# EAGLE library part TB6612FNG,C,8,EL (library IC)
IC MOTOR DRIVER 2.7V-5.5V 24SSOP Manufacturer's datasheet <https://toshiba.semicon-storage.com/info/docget.jsp?did=10660&prodName=TB6612FNG>
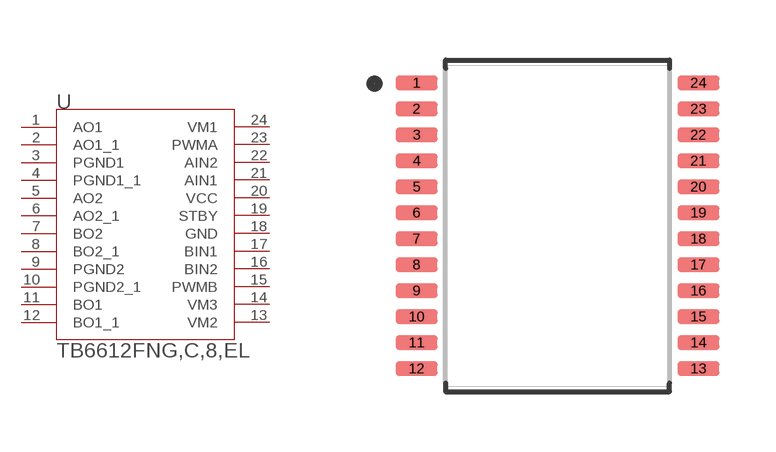
[diagram p40: symbol with the pads of SSOP-24; footprint SSOP-24]

Designator prefix U

## TB6612FNG,C,8,EL (CREATED_BY: PCBLayout.com; DIGI-KEY_PART: TB6612FNGC8ELCT-ND; MANUFACTURER: Toshiba Semiconductor and Storage; MPN: TB6612FNG,C,8,EL; PACKAGE: SSOP-24)  [SSOP-24]
1  AO1  out
2  AO1_1  out
3  PGND1  pwr
4  PGND1_1  pwr
5  AO2  out
6  AO2_1
7  BO2  out
8  BO2_1  out
9  PGND2  pwr
10  PGND2_1  pwr
11  BO1  out
12  BO1_1  out
13  VM2  pas
14  VM3
15  PWMB  in
16  BIN2  in
17  BIN1  in
18  GND  pwr
19  STBY  in
20  VCC  pwr
21  AIN1  in
22  AIN2  in
23  PWMA  in
24  VM1  pas

## Footprint SSOP-24 (pad centres in mm)
Small Outline Pkg (SOP), 0.65 mm pitch; 24 pin, 8.05 mm L X 5.60 mm W X 1.20 mm H body PCB Libraries Packages
smd 1.06 x 0.37: 1 -3.525,3.575; 2 -3.525,2.925; 3 -3.525,2.275; 4 -3.525,1.625; 5 -3.525,0.975; 6 -3.525,0.325; 7 -3.525,-0.325; 8 -3.525,-0.975; 9 -3.525,-1.625; 10 -3.525,-2.275; 11 -3.525,-2.925; 12 -3.525,-3.575; 13 3.525,-3.575; 14 3.525,-2.925; 15 3.525,-2.275; 16 3.525,-1.625; 17 3.525,-0.975; 18 3.525,-0.325; 19 3.525,0.325; 20 3.525,0.975; 21 3.525,1.625; 22 3.525,2.275; 23 3.525,2.925; 24 3.525,3.575